# Altium footprint library Inversores.PcbLib: 1 footprints
Each footprint in its own frame and in the unit in brackets; x right, y up, seen from the top. Pads: shape width x height; smd on the part's side, far side on the other; paste and mask are expansions set on the pad; w line width, h text height; cw(c..) or ccw(c..) is an arc to the next point about the centre after c.
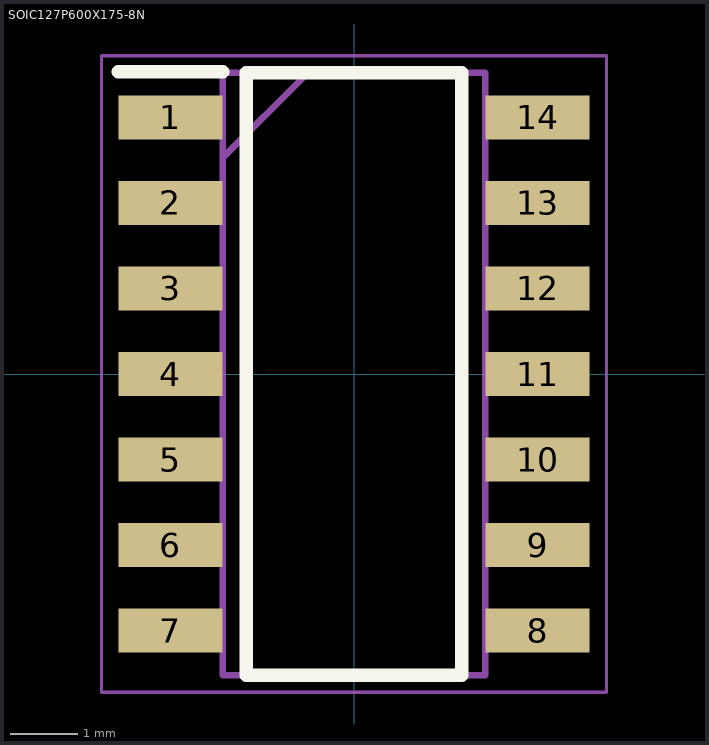
[diagram p0: the footprint, top view; thin cyan lines are the x and y axes]

## SOIC127P600X175-8N [mm]
pads (14):
  rect 1.55x0.65 smd: 1(-2.725,3.81) 2(-2.725,2.54) 3(-2.725,1.27) 4(-2.725,0) 5(-2.725,-1.27) 6(-2.725,-2.54) 7(-2.725,-3.81) 8(2.725,-3.81) 9(2.725,-2.54) 10(2.725,-1.27) 11(2.725,0) 12(2.725,1.27) 13(2.725,2.54) 14(2.725,3.81)
Top Overlay:
  lines w0.2: -3.5,4.485 -1.95,4.485 ; -1.6,-4.475 1.6,-4.475 1.6,4.475 -1.6,4.475 -1.6,-4.475
Mechanical 13:
  lines w0.1: -1.95,3.205 -0.68,4.475 ; -1.95,-4.475 1.95,-4.475 1.95,4.475 -1.95,4.475 -1.95,-4.475
Mechanical 15:
  lines w0.05: -3.75,-4.725 3.75,-4.725 3.75,4.725 -3.75,4.725 -3.75,-4.725
3D body "SOIC-14.STEP": height 1.75, standoff 0, extent -2.9,-4.275 2.9,4.275